# Altium schematic symbol library MICROCHIP_Thermal_Sensors.SchLib: 2 symbols
Pins are listed as number, name and electrical type; pins without a type are passive.

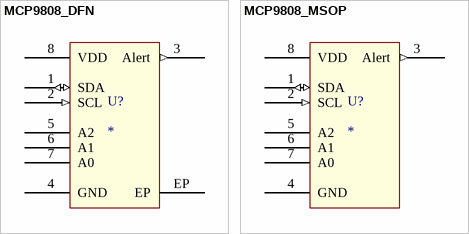
[diagram p0: symbols MCP9808_DFN to MCP9808_MSOP]

## MCP9808_DFN
designator U?
±0.5°C Maximum Accuracy Digital Temperature Sensor; Platform: Altium Designer 19.0.15; Created by: Manuel Caballero; Date on: 30/05/2019
footprint SON50P200X300-8T142X162 (Small Outline No-Lead (SON with Tab), 0.50 mm pitch; 8 pin, 2.00 mm L X 3.00 mm W X 1.00 mm H body)
pins: 1 SDA (io) "Serial Data Line", 2 SCL (in) "Serial Clock Line", 3 Alert (out) "Temperature Alert Output", 4 GND (power) "Ground", 5 A2 "Slave Address", 6 A1 "Slave Address", 7 A0 "Slave Address", 8 VDD (power) "Power Pin", EP (power) "Exposed Thermal Pad (EP); must be connected to GND"

## MCP9808_MSOP
designator U?
±0.5°C Maximum Accuracy Digital Temperature Sensor; Platform: Altium Designer 19.0.15; Created by: Manuel Caballero; Date on: 30/05/2019
footprint SOP8P65_300X490X110L60X31
pins: 1 SDA (io) "Serial Data Line", 2 SCL (in) "Serial Clock Line", 3 Alert (out) "Temperature Alert Output", 4 GND (power) "Ground", 5 A2 "Slave Address", 6 A1 "Slave Address", 7 A0 "Slave Address", 8 VDD (power) "Power Pin"